# EAGLE library part 62400821722 (library Wurth_Connectors_WR-WTB)
WR-WTB 2.00 mm Male Dual Row Horizontal Shrouded Header w. positive locking KIND PROPERTIES: Pitch:2 mm Gender:Male MATERIAL PROPERTIES: Insulator Material :PBT Insulator Flammability Rating:UL94 V-0 Color:White Contact Material:Copper Alloy Contact Plating:Tin Contact Type:Stamped GENERAL INFORMATION Operating Temperature:-25 up to +85 °C Compliance: RoHS Working Voltage:250V (AC) Withstanding Voltage:1000V (AC) Contact Resistance:20 mΩ RISO:1000 MΩ CERTIFICATION UL Approval:E323964 PACKAGING PROPERTIES Packaging:Tube <https://katalog.we-online.com/media/images/v2/o33359v209%20Family_WR-WTB_6240xx21722.jpg> Details see: https://katalog.we-online.com/en/em/WTB_2_00_MALE_DUAL_ROW_HORIZONTAL_SHROUDED_HEADER_W_POSITIVE_LOCKING_6240XX21722 Updated by Yingchun,Shan 2019-11-08 2019 (C) Würth Elektronik
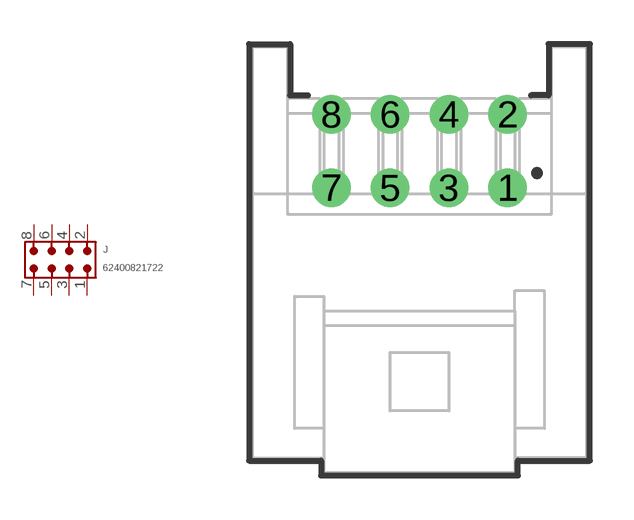
[diagram p11: symbol with the pads of 62400821722; footprint 62400821722]

Designator prefix J

## 62400821722 (CONTACT-RESISTANCE: 20mOhm; DATASHEET-URL: https://www.we-online.com/redexpert/spec/62400821722?ae; GENDER: Male; IR: 3A; L: 11.4mm; MOUNT: THT; PACKAGING: Tube; PART-NUMBER: 62400821722; PCB-CABLE-PANEL: PCB; PINS: 8; PITCH: 2mm; TYPE: Horizontal; VALUE: 62400821722; WORKING-VOLTAGE: 250V(AC))  [62400821722]
1  1  pas
2  2  pas
3  3  pas
4  4  pas
5  5  pas
6  6  pas
7  7  pas
8  8  pas

## Footprint 62400821722 (pad centres in mm)
WR-WTB 2.00 mm Male Dual Row Horizontal Shrouded Header w. positive locking, 8 pins
drill 0.8: 1 3,2.2; 2 3,4.7; 3 1,2.2; 4 1,4.7; 5 -1,2.2; 6 -1,4.7; 7 -3,2.2; 8 -3,4.7